# Altium schematic symbol library ATTINY85-20MU.Schlib: 1 symbol
Pins are listed as number, name and electrical type; pins without a type are passive.

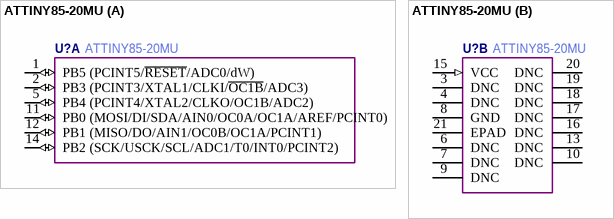
[diagram p0: symbol ATTINY85-20MU]

## ATTINY85-20MU
designator U?
Manufacturer Part Number: ATTINY85-20MU
part A pins: 1 PB5 (PCINT5/~{RESET}/ADC0/dW) (io), 2 PB3 (PCINT3/XTAL1/CLKI/~{OC1B}/ADC3) (io), 5 PB4 (PCINT4/XTAL2/CLKO/OC1B/ADC2) (io), 11 PB0 (MOSI/DI/SDA/AIN0/OC0A/OC1A/AREF/PCINT0) (io), 12 PB1 (MISO/DO/AIN1/OC0B/OC1A/PCINT1) (io), 14 PB2 (SCK/USCK/SCL/ADC1/T0/INT0/PCINT2) (io)
part B pins: 3 DNC, 4 DNC, 6 DNC (hiz), 7 DNC, 8 GND (power), 9 DNC, 10 DNC, 13 DNC, 15 VCC (in), 16 DNC, 17 DNC, 18 DNC, 19 DNC, 20 DNC, 21 EPAD